# Altium footprint library 双驱.PcbLib: 39 footprints (part 2 of 3)
Each footprint in its own frame and in the unit in brackets; x right, y up, seen from the top. Pads: shape width x height; smd on the part's side, far side on the other; paste and mask are expansions set on the pad; w line width, h text height; cw(c..) or ccw(c..) is an arc to the next point about the centre after c.
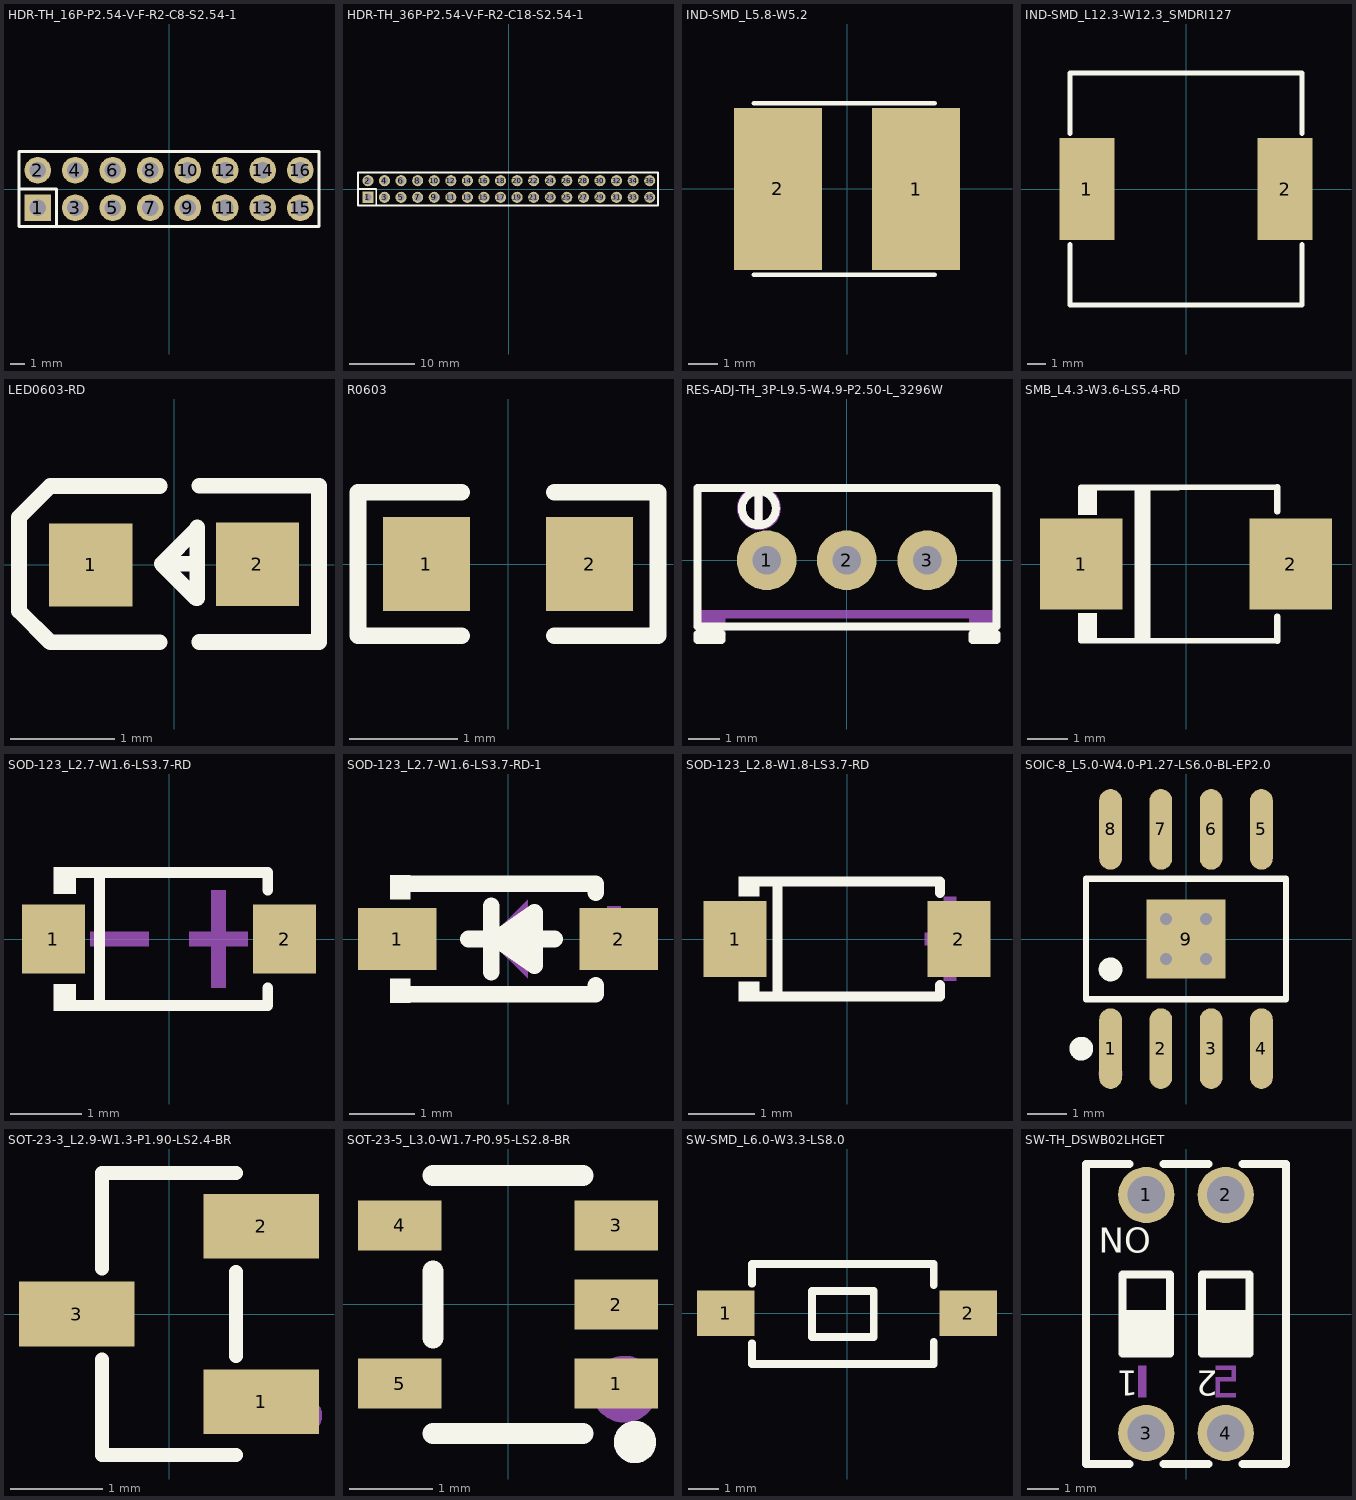
[diagram p1: the footprints below, top view; thin cyan lines are the x and y axes]

## HDR-TH_16P-P2.54-V-F-R2-C8-S2.54-1 [mm]
pads (16):
  rect 1.8x1.8 hole 1.1: 1(-8.89,-1.27)
  round 1.8 hole 1.1: 2(-8.89,1.27) 3(-6.35,-1.27) 4(-6.35,1.27) 5(-3.81,-1.27) 6(-3.81,1.27) 7(-1.27,-1.27) 8(-1.27,1.27) 9(1.27,-1.27) 10(1.27,1.27) 11(3.81,-1.27) 12(3.81,1.27) 13(6.35,-1.27) 14(6.35,1.27) 15(8.89,-1.27) 16(8.89,1.27)
Top Overlay:
  lines w0.203: -10.16,0 -7.62,0 -7.62,-2.54 ; -10.16,-2.54 -10.16,2.54 10.16,2.54 10.16,-2.54 -10.16,-2.54

## HDR-TH_36P-P2.54-V-F-R2-C18-S2.54-1 [mm]
pads (36):
  rect 1.7x1.7 hole 1.1: 1(-21.59,-1.27)
  round 1.7 hole 1.1: 2(-21.59,1.27) 3(-19.05,-1.27) 4(-19.05,1.27) 5(-16.51,-1.27) 6(-16.51,1.27) 7(-13.97,-1.27) 8(-13.97,1.27) 9(-11.43,-1.27) 10(-11.43,1.27) 11(-8.89,-1.27) 12(-8.89,1.27) 13(-6.35,-1.27) 14(-6.35,1.27) 15(-3.81,-1.27) 16(-3.81,1.27) 17(-1.27,-1.27) 18(-1.27,1.27) 19(1.27,-1.27) 20(1.27,1.27) 21(3.81,-1.27) 22(3.81,1.27) 23(6.35,-1.27) 24(6.35,1.27) 25(8.89,-1.27) 26(8.89,1.27) 27(11.43,-1.27) 28(11.43,1.27) 29(13.97,-1.27) 30(13.97,1.27) 31(16.51,-1.27) 32(16.51,1.27) 33(19.05,-1.27) 34(19.05,1.27) 35(21.59,-1.27) 36(21.59,1.27)
Top Overlay:
  lines w0.254: -23.114,0 -20.32,0 -20.32,-2.54 ; -23.114,-2.54 -23.114,2.54 22.86,2.54 22.86,-2.54 -23.114,-2.54

## IND-SMD_L5.8-W5.2 [mm]
pads (2):
  rect 3x5.5 smd: 1(2.35,0) 2(-2.351,0)
Top Overlay:
  lines w0.152: -3.175,-2.921 2.977,-2.921 ; -3.175,2.921 2.977,2.921
Top Paste:
  region: -2.972,-2.6 -2.972,2.6 -0.772,2.6 -0.772,-2.6
  region: 2.972,2.6 2.972,-2.6 0.772,-2.6 0.772,2.6

## IND-SMD_L12.3-W12.3_SMDRI127 [mm]
pads (2):
  rect 2.9x5.4 smd: 1(-5.25,0) 2(5.25,0)
Top Overlay:
  lines w0.254: -6.15,-2.931 -6.15,-6.15 6.15,-6.15 6.15,-2.931 ; -6.15,2.931 -6.15,6.15 6.15,6.15 6.15,2.931

## LED0603-RD [mm]
pads (2):
  rect 0.8x0.8 smd: 1(-0.799,-0.003) 2(0.799,0.004)
Top Overlay:
  lines w0.15: -0.14,-0.746 -1.19,-0.746 -1.49,-0.446 -1.49,-0.346 -1.49,0.354 -1.49,0.454 -1.19,0.754 -0.14,0.754 ; 0.22,0.007 -0.12,0.007 ; 0.24,-0.744 1.39,-0.744 ; 0.24,0.757 1.39,0.757 1.39,-0.723 ; -0.12,0.007 0.22,0.347 0.22,0.357 0.22,-0.324 0.21,-0.324 -0.12,0.007
Mechanical 15:
  region: 0.529,0.068 1.069,0.068 1.069,-0.062 0.529,-0.062
  region: 0.735,-0.267 0.735,0.273 0.865,0.273 0.865,-0.267
  region: -1.07,0.062 -0.53,0.062 -0.53,-0.068 -1.07,-0.068

## R0603 [mm]
pads (2):
  rect 0.806x0.864 smd: 1(-0.753,0) 2(0.753,0)
Top Overlay:
  lines w0.152: -0.426,-0.661 -1.385,-0.661 -1.385,0.661 -0.426,0.661 ; 0.426,-0.661 1.385,-0.661 1.385,0.661 0.426,0.661
Top Paste:
  region: -0.355,0.4 -0.355,0.172 -0.735,0.172 -0.735,-0.158 -0.355,-0.158 -0.355,-0.4 -0.405,-0.45 -1.195,-0.45 -1.245,-0.4 -1.245,0.4 -1.195,0.45 -0.405,0.45
  region: 1.195,0.45 0.395,0.45 0.345,0.4 0.345,0.172 0.715,0.172 0.715,-0.158 0.345,-0.158 0.345,-0.4 0.395,-0.45 1.195,-0.45 1.245,-0.4 1.245,0.4

## RES-ADJ-TH_3P-L9.5-W4.9-P2.50-L_3296W [mm]
pads (3):
  round 1.9 hole 0.9: 1(-2.55,0) 2(-0.01,0) 3(2.55,0)
Top Overlay:
  lines w0.254: -2.804,1.27 -2.804,1.651 ; -2.804,2.189 ccw(c-2.799,1.651) -2.794,2.189 ; -2.804,1.651 -2.804,2.032 -2.804,1.651 ; -4.75,-2.54 -4.75,-2.34 -3.988,-2.34 -3.988,-2.54 -4.75,-2.54 ; -4.75,-2.1 -4.75,2.3 4.75,2.3 4.75,-2.1 -4.75,-2.1 ; 3.988,-2.54 3.988,-2.34 4.75,-2.34 4.75,-2.54 3.988,-2.54
Mechanical 15:
  circle w0.254: c-2.794,1.651 r0.568
  region: -4.762,-2.349 -4.762,-1.587 4.763,-1.587 4.763,-2.476 3.874,-2.476 3.874,-1.841 -3.873,-1.841 -3.873,-2.349
  region: -2.921,2.159 -2.667,2.159 -2.667,1.143 -2.921,1.143

## SMB_L4.3-W3.6-LS5.4-RD [mm]
pads (2):
  rect 2.047x2.241 smd: 1(-2.591,0) 2(2.591,0)
Top Overlay:
  region: -2.667,-1.905 -2.667,-1.215 -2.21,-1.215 -2.21,-1.905
  region: -2.667,1.905 -2.667,1.215 -2.21,1.215 -2.21,1.905
  region: -1.27,1.892 -1.27,-1.895 -0.889,-1.895 -0.889,1.893
  lines w0.152: -2.597,1.889 2.253,1.905 2.257,1.905 2.257,1.301 ; -2.593,-1.892 2.257,-1.905 2.257,-1.301
Mechanical 15:
  region: -3.492,-0.127 -3.492,0.127 -1.841,0.127 -1.841,-0.127
  region: 2.724,-0.828 2.47,-0.828 2.47,0.823 2.724,0.823
  region: 1.771,-0.129 1.771,0.125 3.422,0.125 3.422,-0.129

## SOD-123_L2.7-W1.6-LS3.7-RD [mm]
pads (2):
  rect 0.88x0.96 smd: 1(-1.61,0) 2(1.61,0)
Top Overlay:
  region: -1.3,1.002 -1.3,0.632 -1.605,0.632 -1.605,1.002
  region: -1.3,-1.002 -1.3,-0.632 -1.605,-0.632 -1.605,-1.002
  lines w0.152: -1.376,-0.926 1.376,-0.926 1.376,-0.683 ; -1.376,0.926 1.376,0.926 1.376,0.683 ; -0.967,-0.926 -0.967,0.926
Mechanical 15:
  region: -1.096,0.102 -1.096,-0.102 -0.28,-0.102 -0.28,0.102
  region: 1.096,0.102 1.096,-0.102 0.28,-0.102 0.28,0.102
  region: 0.79,0.68 0.79,-0.68 0.586,-0.68 0.586,0.68

## SOD-123_L2.7-W1.6-LS3.7-RD-1 [mm]
pads (2):
  rect 1.2x0.95 smd: 1(-1.7,0) 2(1.7,0)
Top Overlay:
  region: 0.406,-0.406 0.406,0.406 -0.178,0
  region: -1.502,0.977 -1.502,0.607 -1.806,0.607 -1.806,0.977
  region: -1.502,-0.977 -1.502,-0.607 -1.806,-0.607 -1.806,-0.977
  lines w0.254: -1.644,0.849 -1.643,0.85 -1.346,0.85 1.346,0.85 1.346,0.706 ; -1.639,-0.849 -1.638,-0.85 -1.346,-0.85 1.346,-0.85 1.346,-0.706 ; -0.61,0 -0.28,0 ; -0.254,-0.508 -0.254,0.508 ; 0.406,0 0.72,0 ; -0.178,0 0.406,0.406 0.406,-0.406 -0.178,0
Mechanical 15:
  region: 1.19,0.212 2.032,0.212 2.032,0.005 1.189,0.005
  region: 1.525,-0.338 1.525,0.504 1.732,0.504 1.732,-0.339
  region: -2.042,0.124 -1.2,0.124 -1.2,-0.083 -2.042,-0.083
  region: -0.3,0 0.3,-0.6 0.3,0.6

## SOD-123_L2.8-W1.8-LS3.7-RD [mm]
pads (2):
  rect 0.95x1.15 smd: 1(-1.693,0) 2(1.693,0)
Top Overlay:
  region: -1.33,-0.942 -1.33,-0.647 -1.635,-0.647 -1.635,-0.942
  region: -1.33,0.942 -1.33,0.647 -1.635,0.647 -1.635,0.942
  lines w0.152: -1.406,-0.866 1.406,-0.866 1.406,-0.698 ; -1.406,0.866 1.406,0.866 1.406,0.698 ; -1.049,-0.866 -1.049,0.866
Mechanical 15:
  region: 1.651,0.635 1.651,-0.629 1.461,-0.629 1.461,0.635
  region: 1.935,0.098 1.935,-0.092 1.177,-0.092 1.177,0.098
  region: -2.03,0.095 -2.03,-0.095 -1.272,-0.095 -1.272,0.095

## SOIC-8_L5.0-W4.0-P1.27-LS6.0-BL-EP2.0 [mm]
pads (9):
  oval 0.574x2.038 smd: 1(-1.905,-2.769) 2(-0.635,-2.769) 3(0.635,-2.769) 4(1.905,-2.769) 5(1.905,2.769) 6(0.635,2.769) 7(-0.635,2.769) 8(-1.905,2.769)
  rect 2x2 smd: 9(0,0)
via 0.5,0.5 diameter 0.61 hole 0.305
via -0.5,0.5 diameter 0.61 hole 0.305
via -0.5,-0.5 diameter 0.61 hole 0.305
via 0.5,-0.5 diameter 0.61 hole 0.305
Top Overlay:
  circle w0.3: c-1.905,-0.769 r0.15
  circle w0.3: c-2.644,-2.769 r0.15
  lines w0.152: -2.526,-1.521 -2.526,1.521 2.526,1.521 2.526,-1.521 -2.526,-1.521
Mechanical 15:
  circle w0.3: c-1.905,-3.4 r0.15

## SOT-23-3_L2.9-W1.3-P1.90-LS2.4-BR [mm]
pads (3):
  rect 1.25x0.7 smd: 1(1,-0.95) 2(1,0.95) 3(-1,0)
Top Overlay:
  lines w0.152: -0.726,-0.495 -0.726,-1.526 0.726,-1.526 ; -0.726,0.495 -0.726,1.526 0.726,1.526 ; 0.726,-0.455 0.726,0.455
Mechanical 15:
  circle w0.2: c1.46,-1.1 r0.1

## SOT-23-5_L3.0-W1.7-P0.95-LS2.8-BR [mm]
pads (5):
  rect 1x0.6 smd: 1(1.3,-0.95) 2(1.3,0) 3(1.3,0.95) 4(-1.3,0.95) 5(-1.3,-0.95)
Top Overlay:
  circle w0.254: c1.524,-1.651 r0.127
  lines w0.254: -0.9,-1.55 0.9,-1.55 ; -0.9,-0.4 -0.9,0.4 ; -0.9,1.55 0.9,1.55
Mechanical 15:
  circle w0.4: c1.397,-1.016 r0.2

## SW-SMD_L6.0-W3.3-LS8.0 [mm]
pads (2):
  rect 1.9x1.5 smd: 1(-4,0) 2(4,0)
Top Overlay:
  lines w0.254: -3.137,-0.981 -3.137,-1.668 2.863,-1.668 2.863,-0.935 ; -3.137,0.981 -3.137,1.632 2.863,1.632 2.863,0.935 ; -1.153,-0.78 0.879,-0.78 0.879,0.744 -1.153,0.744 -1.153,-0.78

## SW-TH_DSWB02LHGET [mm]
pads (4):
  round 1.8 hole 1.2: 1(-1.27,3.81) 2(1.27,3.81) 3(-1.27,-3.81) 4(1.27,-3.81)
Top Overlay:
  lines w0.254: -2.032,-1.016 -0.508,-1.016 ; -2.032,-0.762 -0.508,-0.762 ; -2.032,-0.508 -0.508,-0.508 ; -2.032,-0.254 -0.508,-0.254 ; -2.032,0 -0.508,0 ; -1.814,-4.8 -3.2,-4.8 -3.2,4.8 -1.814,4.8 ; -0.726,-4.8 0.726,-4.8 ; -0.726,4.8 0.726,4.8 ; 0.508,-1.016 2.032,-1.016 ; 0.508,-0.762 2.032,-0.762 ; 0.508,-0.508 2.032,-0.508 ; 0.508,-0.254 2.032,-0.254 ; 0.508,0 2.032,0 ; 1.814,-4.8 3.2,-4.8 3.2,4.8 1.814,4.8 ; -2.032,-1.27 -2.032,1.27 -0.508,1.27 -0.508,-1.27 -2.032,-1.27 ; 0.508,-1.27 0.508,1.27 2.032,1.27 2.032,-1.27 0.508,-1.27
  text "2" at 1.016,-1.815 h0.8
  text "1" at -1.524,-1.815 h0.8
  text "NO" at -2.794,1.957 h0.8
Mechanical 15:
  region: 1.079,-1.651 1.587,-1.651 1.587,-2.159 1.079,-2.159 1.079,-2.54 1.587,-2.54 1.587,-2.667 0.953,-2.667 0.953,-2.032 1.46,-2.032 1.46,-1.778 0.953,-1.778 0.953,-1.651
  region: -1.524,-1.651 -1.524,-2.667 -1.27,-2.667 -1.27,-1.651